# EAGLE library part BPX82 (library opto-trans)
Triple PHOTO TRANSISTOR
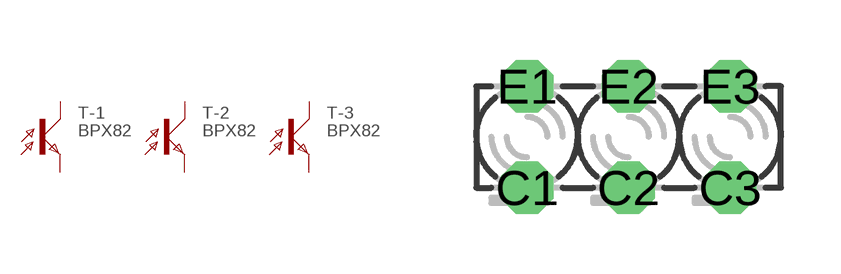
[diagram p1: symbol with the pads of BPX82; footprint BPX82]

Designator prefix T; gates -1=OT-NO -2=OT-NO -3=OT-NO

## BPX82 (OC_FARNELL: unknown; OC_NEWARK: unknown)  [BPX82]
C1  -1:C  pas
C2  -2:C  pas
C3  -3:C  pas
E1  -1:E  pas
E2  -2:E  pas
E3  -3:E  pas

## Footprint BPX82 (pad centres in mm)
Triple PHOTO TRANSISTOR
drill 0.813 octagon: C1 0,-1.27; C2 2.54,-1.27; C3 5.08,-1.27; E1 0,1.27; E2 2.54,1.27; E3 5.08,1.27